# EAGLE library part 74*280 (library 74xx-eu)
9-bit odd/even PARITY GENERATOR/CHECKER
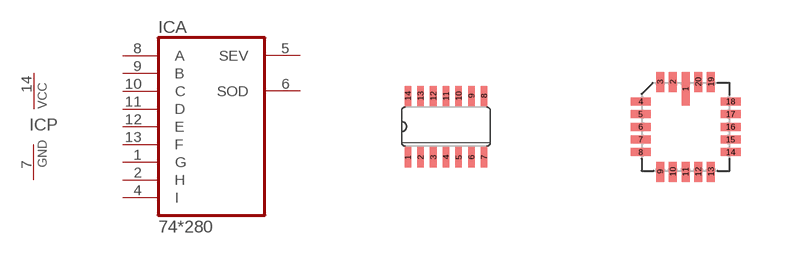
[diagram p160: symbol with the pads of SO14; footprints SO14, LCC20]

Designator prefix IC; gates A=74280 P=PWRN

## 74280D, 74AC280D, 74ACT280D, 74HC280D, 74HCT280D, 74LS280D, 74S280D  [SO14]
1  A:G  in
2  A:H  in
4  A:I  in
5  A:SEV  out
6  A:SOD  out
7  P:GND  pwr
8  A:A  in
9  A:B  in
10  A:C  in
11  A:D  in
12  A:E  in
13  A:F  in
14  P:VCC  pwr

## 74280FK, 74AC280FK, 74ACT280FK, 74HC280FK, 74HCT280FK, 74LS280FK, 74S280FK  [LCC20]
2  A:G  in
3  A:H  in
6  A:I  in
8  A:SEV  out
9  A:SOD  out
10  P:GND  pwr
12  A:A  in
13  A:B  in
14  A:C  in
16  A:D  in
18  A:E  in
19  A:F  in
20  P:VCC  pwr

## 74280N, 74AC280N, 74ACT280N, 74HC280N, 74HCT280N, 74LS280N, 74S280N  [DIL14]
Pads as for SO14

## Footprint SO14 (pad centres in mm)
Small Outline package 150 mil
smd 0.165 x 0.508: 1 -0.953,-0.768; 2 -0.635,-0.768; 3 -0.318,-0.768; 4 0,-0.768; 5 0.318,-0.768; 6 0.635,-0.768; 7 0.953,-0.768; 8 0.953,0.768; 9 0.635,0.768; 10 0.318,0.768; 11 0,0.768; 12 -0.318,0.768; 13 -0.635,0.768; 14 -0.953,0.768

## Footprint LCC20 (pad centres in mm)
Leadless Chip Carrier Ceramic Package
smd 0.2 x 0.85: 1 0,0.95
smd 0.2 x 0.5: 2 -0.318,1.125; 3 -0.635,1.125; 9 -0.635,-1.125; 10 -0.318,-1.125; 11 0,-1.125; 12 0.318,-1.125; 13 0.635,-1.125; 19 0.635,1.125; 20 0.318,1.125
smd 0.5 x 0.2: 4 -1.125,0.635; 5 -1.125,0.318; 6 -1.125,0; 7 -1.125,-0.318; 8 -1.125,-0.635; 14 1.125,-0.635; 15 1.125,-0.318; 16 1.125,0; 17 1.125,0.318; 18 1.125,0.635

## Footprint DIL14 (pad centres in mm)
Dual In Line Package
drill 0.203 long: 1 -1.905,-0.953; 2 -1.27,-0.953; 3 -0.635,-0.953; 4 0,-0.953; 5 0.635,-0.953; 6 1.27,-0.953; 7 1.905,-0.953; 8 1.905,0.953; 9 1.27,0.953; 10 0.635,0.953; 11 0,0.953; 12 -0.635,0.953; 13 -1.27,0.953; 14 -1.905,0.953